# Altium schematic symbol library Schlib1.SchLib: 4 symbols
Pins are listed as number, name and electrical type; pins without a type are passive.

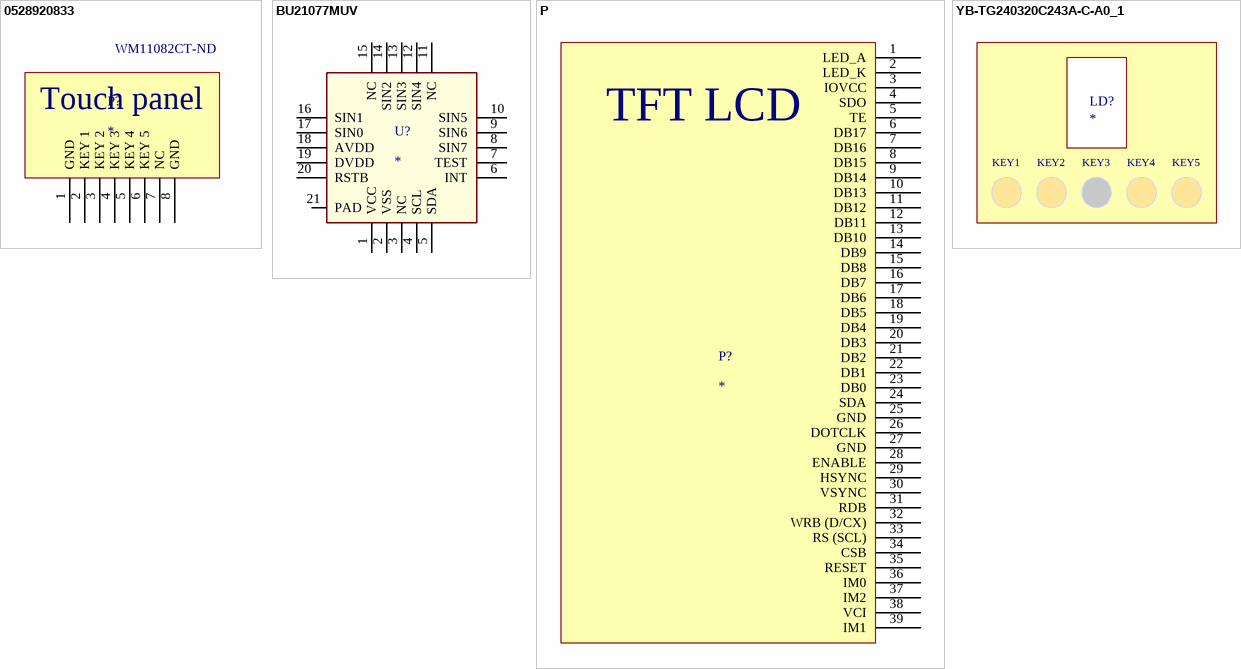
[diagram p0: symbols 0528920833 to YB-TG240320C243A-C-A0_1]

## 0528920833
designator P?  Supplier Part Number 1: WM11082CT-ND
CONN FFC BOTTOM 8POS 0.50MM R/A; Manufacturer: Molex; Manufacturer Part Number: 0528920833; Actuator Material: Glass,Polyphenylene; Number of Positions: 8; Voltage Rating: 50V; Current Rating: 500mA; Wire/Cable Type: Straight; Pitch: 0.02inch; Supplier 1: Digi-Key; Stock 1: 5457; Pricing 1: 1 = 0.89000, 10 = 0.77800, 25 = 0.73280, 50 = 0.70200, 100 = 0.67160, 250 = 0.61052, 500 = 0.54946 (USD); RoHS: Yes; Mount: Surface Mount; Contact Plating: Tin; Housing Material: Nylon; Contact Material: Bronze; Min Operating Temperature: -40°C; Max Operating Temperature: 85°C; Orientation: Right Angle; Termination: Solder; Number of Contacts: 8; Number of Rows: 1; Package Quantity: 1000; Packaging: Tape and Reel; Radiation Hardening: No; Flammability Rating: UL94 V-0; ComponentLink1URL: https://datasheet.ciiva.com/29758/528923033-sd-29758739.pdf?src-supplier=Digi-Key; ComponentLink1Description: https://datasheet.ciiva.com/29758/528923033-sd-29758739.pdf?src-supplier=Digi-Key; ComponentLink2URL: https://datasheet.ciiva.com/46637/528922433-sd-46637399.pdf?src-supplier=Digi-Key; ComponentLink2Description: https://datasheet.ciiva.com/46637/528922433-sd-46637399.pdf?src-supplier=Digi-Key
pins: 1 GND, 2 KEY 1, 3 KEY 2, 4 KEY 3, 5 KEY 4 , 6 KEY 5, 7 NC, 8 GND
text: Touch panel

## BU21077MUV
designator U?
Capacitive Switch Controller IC; Manufacturer: Rohm; Manufacturer Part Number: BU21077MUV-E2; Supplier 1: Digi-Key; Stock 1: 2496; Pricing 1: 1 = 2.09000, 10 = 1.87600, 25 = 1.77000, 100 = 1.50800, 250 = 1.41600, 500 = 1.23900, 1000 = 1.02660 (USD); RoHS: No; Mount: Surface Mount; Min Operating Temperature: -20°C; Max Operating Temperature: 85°C; Packaging: Tape and Reel; ComponentLink1URL: https://www.rohm.com/datasheet/BU21077MUV/bu21077muv-e.pdf?src-supplier=Digi-Key; ComponentLink1Description: https://www.rohm.com/datasheet/BU21077MUV/bu21077muv-e.pdf?src-supplier=Digi-Key
pins: 1 VCC, 2 VSS, 3 NC, 4 SCL, 5 SDA, 6 INT, 7 TEST, 8 SIN7, 9 SIN6, 10 SIN5, 11 NC, 12 SIN4, 13 SIN3, 14 SIN2, 15 NC, 16 SIN1, 17 SIN0, 18 AVDD, 19 DVDD, 20 RSTB, 21 PAD

## P
designator P?  (graphical)
FPC CONNECTOR OF LCD MODULE; Parameter 1: *; Parameter 2: *
footprint FPC-39 (0.30mm Pitch, Right-Angle, Bottom Contact, 0.95mm Height, 39 Circuits, Gold over Nickel Plating)
pins: 1 LED_A, 2 LED_K, 3 IOVCC, 4 SDO, 5 TE, 6 DB17, 7 DB16, 8 DB15, 9 DB14, 10 DB13, 11 DB12, 12 DB11, 13 DB10, 14 DB9, 15 DB8, 16 DB7, 17 DB6, 18 DB5, 19 DB4, 20 DB3, 21 DB2, 22 DB1, 23 DB0, 24 SDA, 25 GND, 26 DOTCLK, 27 GND, 28 ENABLE, 29 HSYNC, 30 VSYNC, 31 RDB, 32 WRB (D/CX), 33 RS (SCL), 34 CSB, 35 RESET, 36 IM0, 37 IM2, 38 VCI, 39 IM1
text: TFT LCD

## YB-TG240320C243A-C-A0_1
designator LD?
YB-TG240320C243A-C-A0_1
footprint LCD MODULE YB-TG240320C243A-C-A0
text: KEY1; KEY2; KEY3; KEY4; KEY5